# EAGLE library part FDS4675 (library fairchild_fds)
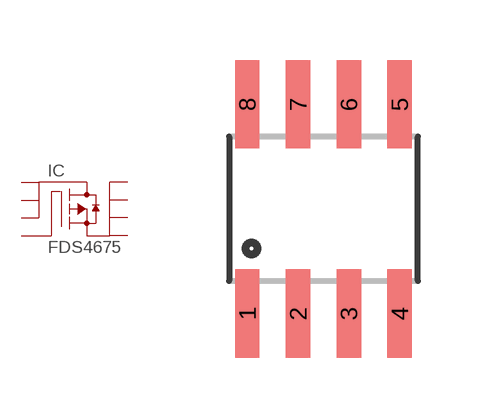
[diagram p0: symbol with the pads of SO08; footprint SO08]

Designator prefix IC

## FDS4675  [SO08]
1  S  in
2  S  in
3  S  in
4  G  in
5  D  out
6  D  out
7  D  out
8  D  out

## Footprint SO08 (pad centres in mm)
Small Outline Package
smd 0.61 x 2.21: 1 -1.905,-2.616; 2 -0.635,-2.616; 3 0.635,-2.616; 4 1.905,-2.616; 5 1.905,2.616; 6 0.635,2.616; 7 -0.635,2.616; 8 -1.905,2.616